# Altium integrated library RY-12W-K.IntLib: 1 symbol
Pins are listed as number, name and electrical type; pins without a type are passive.

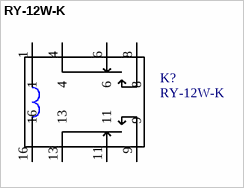
[diagram p0: symbol RY-12W-K]

## RY-12W-K
designator K?
Signal Relays Mini Signal, 12VDC; MF: Fujitsu; SnapEDA_Link: https://www.snapeda.com/parts/RY-12W-K/Fujitsu/view-part/?ref=snap; MP: RY-12W-K; Availability: Unavailable; Package: None; Price: None; Value: *
footprint *RELAY_RY-12W-K
pins: 1, 4, 6, 8, 9, 11, 13, 16